# Altium footprint library PcbLib1.PcbLib: 2 footprints
Each footprint in its own frame and in the unit in brackets; x right, y up, seen from the top. Pads: shape width x height; smd on the part's side, far side on the other; paste and mask are expansions set on the pad; w line width, h text height; cw(c..) or ccw(c..) is an arc to the next point about the centre after c.
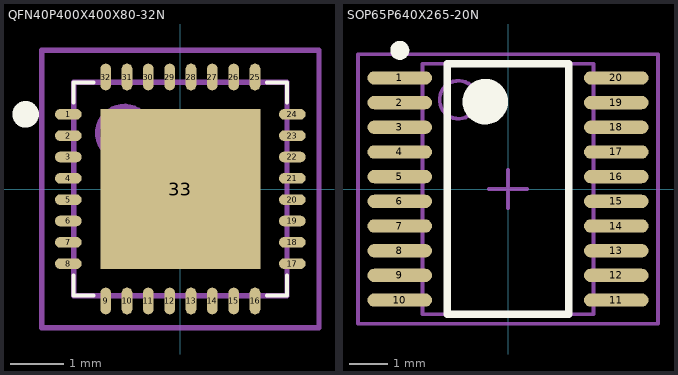
[diagram p0: the footprints below, top view; thin cyan lines are the x and y axes]

## QFN40P400X400X80-32N [mm] "QFN, 32-Leads, Body 4.0x4.0mm (max), Pitch 0.40mm, IPC Medium Density"
height 0.8
pads (33):
  oval 0.5x0.2 smd: 1(-2.1,1.4) 2(-2.1,1) 3(-2.1,0.6) 4(-2.1,0.2) 5(-2.1,-0.2) 6(-2.1,-0.6) 7(-2.1,-1) 8(-2.1,-1.4) 17(2.1,-1.4) 18(2.1,-1) 19(2.1,-0.6) 20(2.1,-0.2) 21(2.1,0.2) 22(2.1,0.6) 23(2.1,1) 24(2.1,1.4)
  oval 0.2x0.5 smd: 9(-1.4,-2.1) 10(-1,-2.1) 11(-0.6,-2.1) 12(-0.2,-2.1) 13(0.2,-2.1) 14(0.6,-2.1) 15(1,-2.1) 16(1.4,-2.1) 25(1.4,2.1) 26(1,2.1) 27(0.6,2.1) 28(0.2,2.1) 29(-0.2,2.1) 30(-0.6,2.1) 31(-1,2.1) 32(-1.4,2.1)
  rect 3x3 smd: 33(0,0)
Top Overlay:
  circle w0.25: c-2.9,1.4 r0.125
  lines w0.076: -2,-2 -1.626,-2 ; -2,-1.975 -2,-1.626 ; -2,1.626 -2,2 ; -1.975,2 -1.626,2 ; 1.626,-2 1.975,-2 ; 1.626,2 2,2 ; 2,-2 2,-1.626 ; 2,1.626 2,1.975
Mechanical 13:
  circle w0.1: c-1.05,1.05 r0.5
  lines w0.1: -2,-2 2,-2 2,2 -2,2 -2,-2
Mechanical 15:
  lines w0.1: -0.5,0 0.5,0 ; 0,-0.5 0,0.5 ; -2.6,-2.6 2.6,-2.6 2.6,2.6 -2.6,2.6 -2.6,-2.6
3D body: height 0.8, standoff 0.01, extent -2,-2 2,2

## SOP65P640X265-20N [mm] "SOP, 20-Leads, Body 6.6x4.5mm (max), Pitch 0.65mm, IPC Medium Density"
height 2.65
pads (20):
  oval 1.7x0.35 smd: 1(-2.85,2.925) 2(-2.85,2.275) 3(-2.85,1.625) 4(-2.85,0.975) 5(-2.85,0.325) 6(-2.85,-0.325) 7(-2.85,-0.975) 8(-2.85,-1.625) 9(-2.85,-2.275) 10(-2.85,-2.925) 11(2.85,-2.925) 12(2.85,-2.275) 13(2.85,-1.625) 14(2.85,-0.975) 15(2.85,-0.325) 16(2.85,0.325) 17(2.85,0.975) 18(2.85,1.625) 19(2.85,2.275) 20(2.85,2.925)
Top Overlay:
  circle w0.6: c-0.6,2.3 r0.3
  circle w0.25: c-2.85,3.65 r0.125
  lines w0.2: -1.6,-3.3 1.6,-3.3 1.6,3.3 -1.6,3.3 -1.6,-3.3
Mechanical 13:
  circle w0.1: c-1.3,2.35 r0.5
  lines w0.1: -2.25,-3.3 2.25,-3.3 2.25,3.3 -2.25,3.3 -2.25,-3.3
Mechanical 15:
  lines w0.1: -0.5,0 0.5,0 ; 0,-0.5 0,0.5 ; -3.95,-3.55 3.95,-3.55 3.95,3.55 -3.95,3.55 -3.95,-3.55
3D body: height 2.65, standoff 0.1, extent -2.25,-3.3 2.25,3.3